# Altium schematic symbol library SEVEN_SEGMENT_ANODE.SchLib: 1 symbol
Pins are listed as number, name and electrical type; pins without a type are passive.

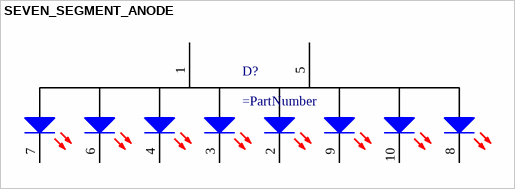
[diagram p0: symbol SEVEN_SEGMENT_ANODE]

## SEVEN_SEGMENT_ANODE
designator D?
pins: 1 A, 2 E, 3 D, 4 C, 5 A, 6 B, 7 A, 8 DP, 9 F, 10 G